# EAGLE library part ADG794 (library ADG794)
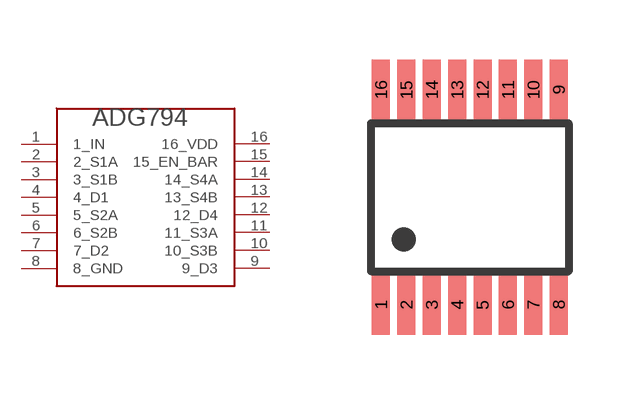
[diagram p0: symbol with the pads of QSOP16; footprint QSOP16]

Designator prefix -

## ADG794  [QSOP16]
1  1_IN
2  2_S1A
3  3_S1B
4  4_D1
5  5_S2A
6  6_S2B
7  7_D2
8  8_GND
9  9_D3
10  10_S3B
11  11_S3A
12  12_D4
13  13_S4B
14  14_S4A
15  15_EN_BAR
16  16_VDD

## Footprint QSOP16 (pad centres in mm)
smd 0.45 x 1.5: 1 -2.223,-2.69; 2 -1.587,-2.69; 3 -0.953,-2.69; 4 -0.318,-2.69; 5 0.318,-2.69; 6 0.953,-2.69; 7 1.587,-2.69; 8 2.223,-2.69; 9 2.223,2.69; 10 1.587,2.69; 11 0.953,2.69; 12 0.318,2.69; 13 -0.318,2.69; 14 -0.953,2.69; 15 -1.587,2.69; 16 -2.223,2.69